# EAGLE library part MTFC* (library eagle-book)
Micron MultiMediaCard (MMC) Controller and NAND Flash
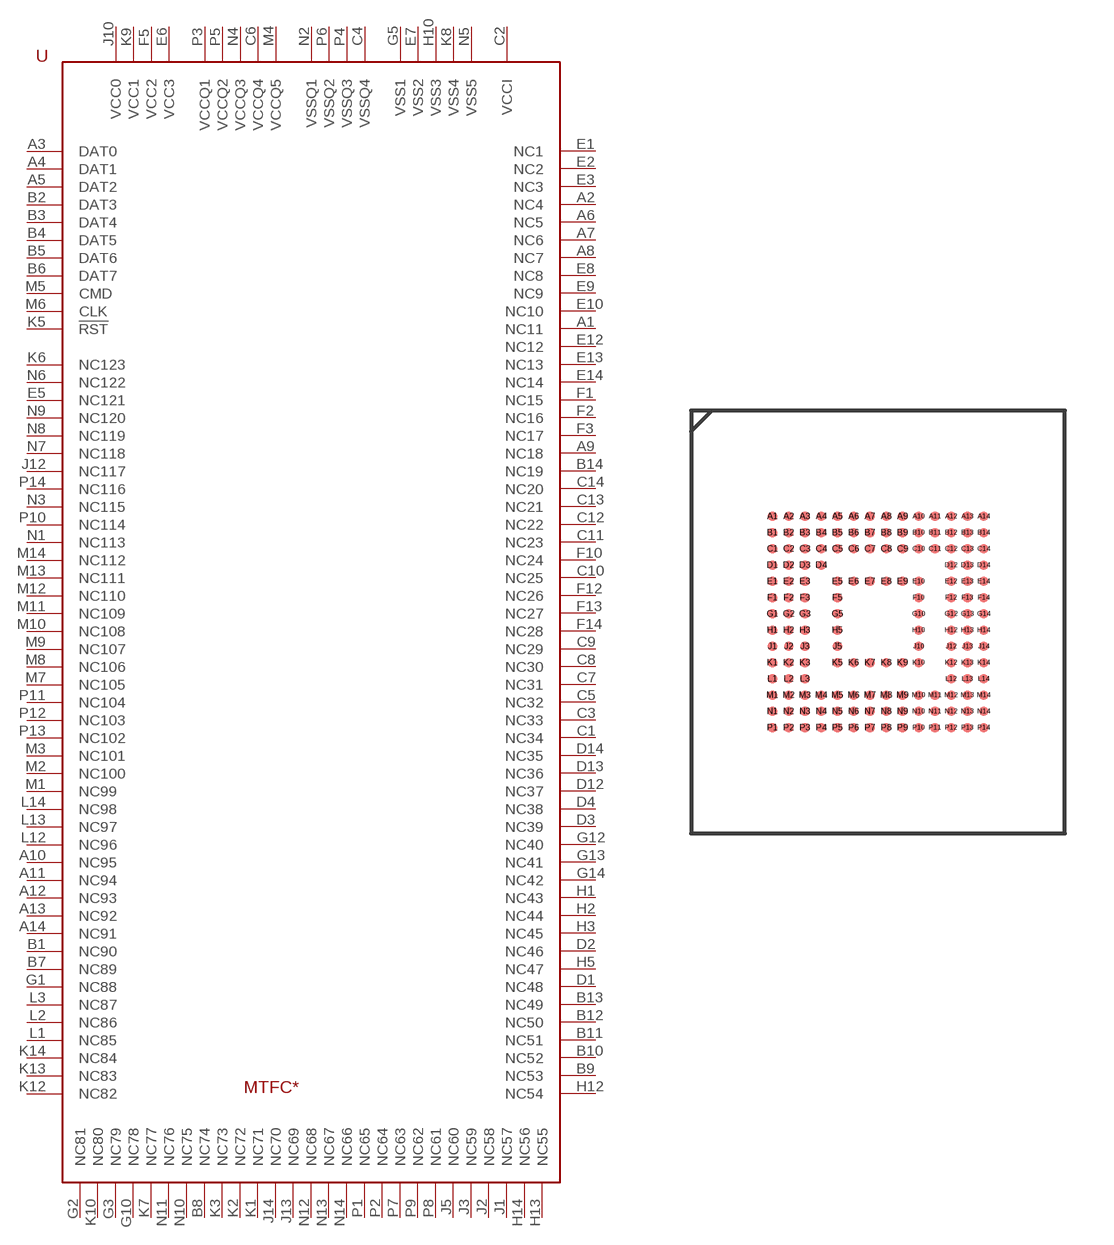
[diagram p8: symbol with the pads of WFBGA153; footprint WFBGA153]

Designator prefix U

## MTFC2GMVEA  [WFBGA153]
A1  NC11  nc
A2  NC4  nc
A3  DAT0
A4  DAT1
A5  DAT2
A6  NC5  nc
A7  NC6  nc
A8  NC7  nc
A9  NC18  nc
A10  NC95  nc
A11  NC94  nc
A12  NC93  nc
A13  NC92  nc
A14  NC91  nc
B1  NC90  nc
B2  DAT3
B3  DAT4
B4  DAT5
B5  DAT6
B6  DAT7
B7  NC89  nc
B8  NC74  nc
B9  NC53  nc
B10  NC52  nc
B11  NC51  nc
B12  NC50  nc
B13  NC49  nc
B14  NC19  nc
C1  NC34  nc
C2  VCCI  pwr
C3  NC33  nc
C4  VSSQ4  pwr
C5  NC32  nc
C6  VCCQ4  pwr
C7  NC31  nc
C8  NC30  nc
C9  NC29  nc
C10  NC25  nc
C11  NC23  nc
C12  NC22  nc
C13  NC21  nc
C14  NC20  nc
D1  NC48  nc
D2  NC46  nc
D3  NC39  nc
D4  NC38  nc
D12  NC37  nc
D13  NC36  nc
D14  NC35  nc
E1  NC1  nc
E2  NC2  nc
E3  NC3  nc
E5  NC121  nc
E6  VCC3  pwr
E7  VSS2  pwr
E8  NC8  nc
E9  NC9  nc
E10  NC10  nc
E12  NC12  nc
E13  NC13  nc
E14  NC14  nc
F1  NC15  nc
F2  NC16  nc
F3  NC17  nc
F5  VCC2  pwr
F10  NC24  nc
F12  NC26  nc
F13  NC27  nc
F14  NC28  nc
G1  NC88  nc
G2  NC81  nc
G3  NC79  nc
G5  VSS1  pwr
G10  NC78  nc
G12  NC40  nc
G13  NC41  nc
G14  NC42  nc
H1  NC43  nc
H2  NC44  nc
H3  NC45  nc
H5  NC47  nc
H10  VSS3  pwr
H12  NC54  nc
H13  NC55  nc
H14  NC56  nc
J1  NC57  nc
J2  NC58  nc
J3  NC59  nc
J5  NC60  nc
J10  VCC0  pwr
J12  NC117  nc
J13  NC69  nc
J14  NC70  nc
K1  NC71  nc
K2  NC72  nc
K3  NC73  nc
K5  !RST
K6  NC123  nc
K7  NC77  nc
K8  VSS4  pwr
K9  VCC1  pwr
K10  NC80  nc
K12  NC82  nc
K13  NC83  nc
K14  NC84  nc
L1  NC85  nc
L2  NC86  nc
L3  NC87  nc
L12  NC96  nc
L13  NC97  nc
L14  NC98  nc
M1  NC99  nc
M2  NC100  nc
M3  NC101  nc
M4  VCCQ5  pwr
M5  CMD
M6  CLK
M7  NC105  nc
M8  NC106  nc
M9  NC107  nc
M10  NC108  nc
M11  NC109  nc
M12  NC110  nc
M13  NC111  nc
M14  NC112  nc
N1  NC113  nc
N2  VSSQ1  pwr
N3  NC115  nc
N4  VCCQ3  pwr
N5  VSS5  pwr
N6  NC122  nc
N7  NC118  nc
N8  NC119  nc
N9  NC120  nc
N10  NC75  nc
N11  NC76  nc
N12  NC68  nc
N13  NC67  nc
N14  NC66  nc
P1  NC65  nc
P2  NC64  nc
P3  VCCQ1  pwr
P4  VSSQ3  pwr
P5  VCCQ2  pwr
P6  VSSQ2  pwr
P7  NC63  nc
P8  NC61  nc
P9  NC62  nc
P10  NC114  nc
P11  NC104  nc
P12  NC103  nc
P13  NC102  nc
P14  NC116  nc

## Footprint WFBGA153 (pad centres in mm)
153-ball Very very thin profile fine pitch ball grid array package
smd 0.3 x 0.3: A1 -3.25,3.25; A2 -2.75,3.25; A3 -2.25,3.25; A4 -1.75,3.25; A5 -1.25,3.25; A6 -0.75,3.25; A7 -0.25,3.25; A8 0.25,3.25; A9 0.75,3.25; A10 1.25,3.25; A11 1.75,3.25; A12 2.25,3.25; A13 2.75,3.25; A14 3.25,3.25; B1 -3.25,2.75; B2 -2.75,2.75; B3 -2.25,2.75; B4 -1.75,2.75; B5 -1.25,2.75; B6 -0.75,2.75; B7 -0.25,2.75; B8 0.25,2.75; B9 0.75,2.75; B10 1.25,2.75; B11 1.75,2.75; B12 2.25,2.75; B13 2.75,2.75; B14 3.25,2.75; C1 -3.25,2.25; C2 -2.75,2.25; C3 -2.25,2.25; C4 -1.75,2.25; C5 -1.25,2.25; C6 -0.75,2.25; C7 -0.25,2.25; C8 0.25,2.25; C9 0.75,2.25; C10 1.25,2.25; C11 1.75,2.25; C12 2.25,2.25; C13 2.75,2.25; C14 3.25,2.25; D1 -3.25,1.75; D2 -2.75,1.75; D3 -2.25,1.75; D4 -1.75,1.75; D12 2.25,1.75; D13 2.75,1.75; D14 3.25,1.75; E1 -3.25,1.25; E2 -2.75,1.25; E3 -2.25,1.25; E5 -1.25,1.25; E6 -0.75,1.25; E7 -0.25,1.25; E8 0.25,1.25; E9 0.75,1.25; E10 1.25,1.25; E12 2.25,1.25; E13 2.75,1.25; E14 3.25,1.25; F1 -3.25,0.75; F2 -2.75,0.75; F3 -2.25,0.75; F5 -1.25,0.75; F10 1.25,0.75; F12 2.25,0.75; F13 2.75,0.75; F14 3.25,0.75; G1 -3.25,0.25; G2 -2.75,0.25; G3 -2.25,0.25; G5 -1.25,0.25; G10 1.25,0.25; G12 2.25,0.25; G13 2.75,0.25; G14 3.25,0.25; H1 -3.25,-0.25; H2 -2.75,-0.25; H3 -2.25,-0.25; H5 -1.25,-0.25; H10 1.25,-0.25; H12 2.25,-0.25; H13 2.75,-0.25; H14 3.25,-0.25; J1 -3.25,-0.75; J2 -2.75,-0.75; J3 -2.25,-0.75; J5 -1.25,-0.75; J10 1.25,-0.75; J12 2.25,-0.75; J13 2.75,-0.75; J14 3.25,-0.75; K1 -3.25,-1.25; K2 -2.75,-1.25; K3 -2.25,-1.25; K5 -1.25,-1.25; K6 -0.75,-1.25; K7 -0.25,-1.25; K8 0.25,-1.25; K9 0.75,-1.25; K10 1.25,-1.25; K12 2.25,-1.25; K13 2.75,-1.25; K14 3.25,-1.25; L1 -3.25,-1.75; L2 -2.75,-1.75; L3 -2.25,-1.75; L12 2.25,-1.75; L13 2.75,-1.75; L14 3.25,-1.75; M1 -3.25,-2.25; M2 -2.75,-2.25; M3 -2.25,-2.25; M4 -1.75,-2.25; M5 -1.25,-2.25; M6 -0.75,-2.25; M7 -0.25,-2.25; M8 0.25,-2.25; M9 0.75,-2.25; M10 1.25,-2.25; M11 1.75,-2.25; M12 2.25,-2.25; M13 2.75,-2.25; M14 3.25,-2.25; N1 -3.25,-2.75; N2 -2.75,-2.75; N3 -2.25,-2.75; N4 -1.75,-2.75; N5 -1.25,-2.75; N6 -0.75,-2.75; N7 -0.25,-2.75; N8 0.25,-2.75; N9 0.75,-2.75; N10 1.25,-2.75; N11 1.75,-2.75; N12 2.25,-2.75; N13 2.75,-2.75; N14 3.25,-2.75; P1 -3.25,-3.25; P2 -2.75,-3.25; P3 -2.25,-3.25; P4 -1.75,-3.25; P5 -1.25,-3.25; P6 -0.75,-3.25; P7 -0.25,-3.25; P8 0.25,-3.25; P9 0.75,-3.25; P10 1.25,-3.25; P11 1.75,-3.25; P12 2.25,-3.25; P13 2.75,-3.25; P14 3.25,-3.25